# Altium footprint library PowerDI5.PcbLib: 1 footprints
Each footprint in its own frame and in the unit in brackets; x right, y up, seen from the top. Pads: shape width x height; smd on the part's side, far side on the other; paste and mask are expansions set on the pad; w line width, h text height; cw(c..) or ccw(c..) is an arc to the next point about the centre after c.
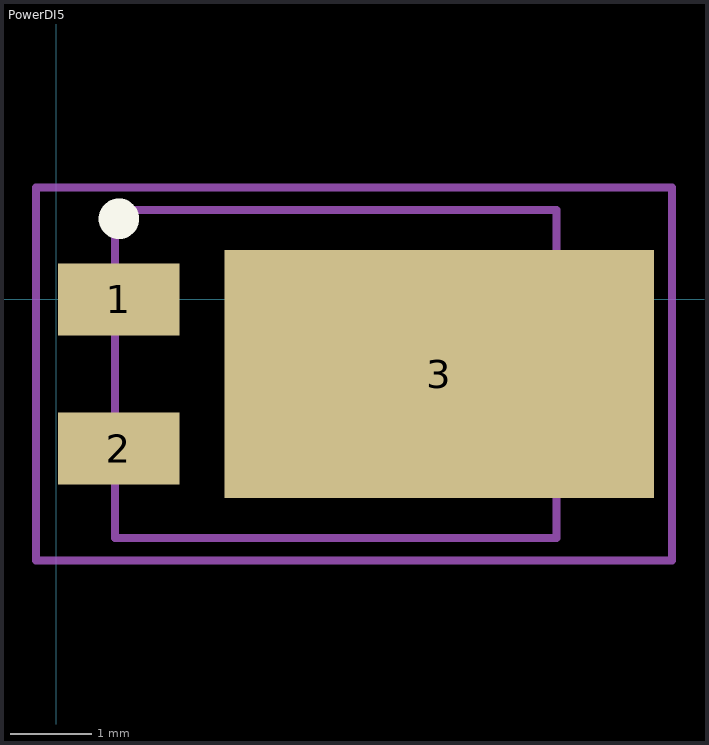
[diagram p0: the footprint, top view; thin cyan lines are the x and y axes]

## PowerDI5 [mm] "TO, 3-Pads, Body 5,4x4,1mm (max), IPC Medium Density"
height 1.15
pads (3):
  rect 1.5x0.89 smd: 1(0.775,0) 2(0.775,-1.84)
  rect 5.3x3.054 smd: 3(4.725,-0.92)
Top Overlay:
  circle w0.25: c0.775,0.995 r0.125
Mechanical 13:
  lines w0.1: 0.725,-2.945 6.175,-2.945 6.175,1.105 0.725,1.105 0.725,-2.945
Mechanical 15:
  lines w0.1: 3.175,-0.92 4.175,-0.92 ; 3.675,-1.42 3.675,-0.42 ; -0.25,-3.22 7.6,-3.22 7.6,1.38 -0.25,1.38 -0.25,-3.22
3D body: height 1.15, standoff 0, extent 0.725,-2.945 6.175,1.105